# EAGLE library part 94 (library display-lcd-lxd)
16 Dot-Matrix Digit, .30" (7.62) Multiplexed Display Additional Descriptors: none
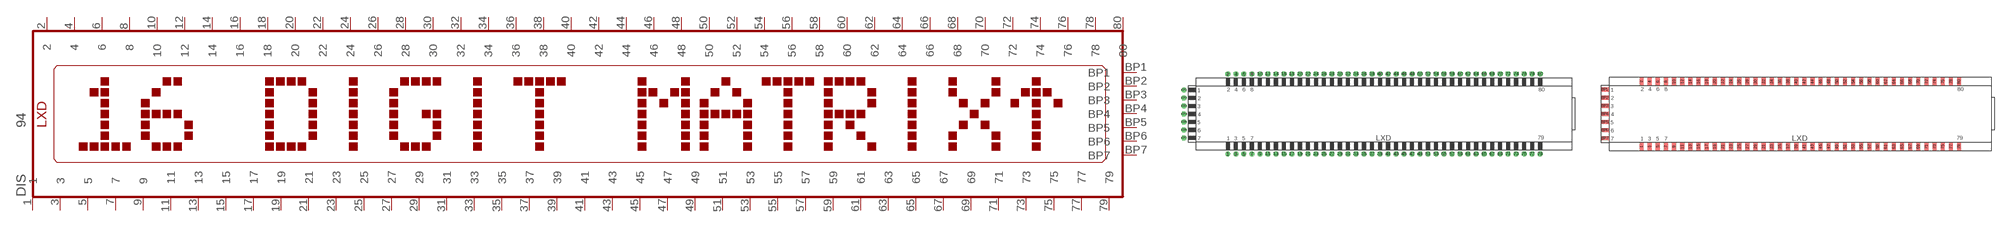
[diagram p38: symbol with the pads of 94-D; footprints 94-D, 94-E]

Designator prefix DIS

## 94DIP  [94-D]
1  1  pas
2  2  pas
3  3  pas
4  4  pas
5  5  pas
6  6  pas
7  7  pas
8  8  pas
9  9  pas
10  10  pas
11  11  pas
12  12  pas
13  13  pas
14  14  pas
15  15  pas
16  16  pas
17  17  pas
18  18  pas
19  19  pas
20  20  pas
21  21  pas
22  22  pas
23  23  pas
24  24  pas
25  25  pas
26  26  pas
27  27  pas
28  28  pas
29  29  pas
30  30  pas
31  31  pas
32  32  pas
33  33  pas
34  34  pas
35  35  pas
36  36  pas
37  37  pas
38  38  pas
39  39  pas
40  40  pas
41  41  pas
42  42  pas
43  43  pas
44  44  pas
45  45  pas
46  46  pas
47  47  pas
48  48  pas
49  49  pas
50  50  pas
51  51  pas
52  52  pas
53  53  pas
54  54  pas
55  55  pas
56  56  pas
57  57  pas
58  58  pas
59  59  pas
60  60  pas
61  61  pas
62  62  pas
63  63  pas
64  64  pas
65  65  pas
66  66  pas
67  67  pas
68  68  pas
69  69  pas
70  70  pas
71  71  pas
72  72  pas
73  73  pas
74  74  pas
75  75  pas
76  76  pas
77  77  pas
78  78  pas
79  79  pas
80  80  pas
BP1  BP1  pas
BP2  BP2  pas
BP3  BP3  pas
BP4  BP4  pas
BP5  BP5  pas
BP6  BP6  pas
BP7  BP7  pas

## 94SMD  [94-E]
Pads as for 94-D

## Footprint 94-D (pad centres in mm)
Glass Size: 4.80" x 0.90" &nbsp &nbsp &nbsp &nbsp &nbsp &nbsp &nbsp &nbsp &nbsp (121.92 x 22.86)
drill 0.813 pad 1.6 round: 1 -49.53,-12.7; BP1 -63.5,7.62
drill 0.813 pad 1.6 octagon: 2 -49.53,12.7; 3 -46.99,-12.7; 4 -46.99,12.7; 5 -44.45,-12.7; 6 -44.45,12.7; 7 -41.91,-12.7; 8 -41.91,12.7; 9 -39.37,-12.7; 10 -39.37,12.7; 11 -36.83,-12.7; 12 -36.83,12.7; 13 -34.29,-12.7; 14 -34.29,12.7; 15 -31.75,-12.7; 16 -31.75,12.7; 17 -29.21,-12.7; 18 -29.21,12.7; 19 -26.67,-12.7; 20 -26.67,12.7; 21 -24.13,-12.7; 22 -24.13,12.7; 23 -21.59,-12.7; 24 -21.59,12.7; 25 -19.05,-12.7; 26 -19.05,12.7; 27 -16.51,-12.7; 28 -16.51,12.7; 29 -13.97,-12.7; 30 -13.97,12.7; 31 -11.43,-12.7; 32 -11.43,12.7; 33 -8.89,-12.7; 34 -8.89,12.7; 35 -6.35,-12.7; 36 -6.35,12.7; 37 -3.81,-12.7; 38 -3.81,12.7; 39 -1.27,-12.7; 40 -1.27,12.7; 41 1.27,-12.7; 42 1.27,12.7; 43 3.81,-12.7; 44 3.81,12.7; 45 6.35,-12.7; 46 6.35,12.7; 47 8.89,-12.7; 48 8.89,12.7; 49 11.43,-12.7; 50 11.43,12.7; 51 13.97,-12.7; 52 13.97,12.7; 53 16.51,-12.7; 54 16.51,12.7; 55 19.05,-12.7; 56 19.05,12.7; 57 21.59,-12.7; 58 21.59,12.7; 59 24.13,-12.7; 60 24.13,12.7; 61 26.67,-12.7; 62 26.67,12.7; 63 29.21,-12.7; 64 29.21,12.7; 65 31.75,-12.7; 66 31.75,12.7; 67 34.29,-12.7; 68 34.29,12.7; 69 36.83,-12.7; 70 36.83,12.7; 71 39.37,-12.7; 72 39.37,12.7; 73 41.91,-12.7; 74 41.91,12.7; 75 44.45,-12.7; 76 44.45,12.7; 77 46.99,-12.7; 78 46.99,12.7; 79 49.53,-12.7; 80 49.53,12.7; BP2 -63.5,5.08; BP3 -63.5,2.54; BP4 -63.5,0; BP5 -63.5,-2.54; BP6 -63.5,-5.08; BP7 -63.5,-7.62

## Footprint 94-E (pad centres in mm)
Glass Size: 4.80" x 0.90" &nbsp &nbsp &nbsp &nbsp &nbsp &nbsp &nbsp &nbsp &nbsp (121.92 x 22.86)
smd 1.27 x 2.54: 1 -49.53,-10.16; 2 -49.53,10.16; 3 -46.99,-10.16; 4 -46.99,10.16; 5 -44.45,-10.16; 6 -44.45,10.16; 7 -41.91,-10.16; 8 -41.91,10.16; 9 -39.37,-10.16; 10 -39.37,10.16; 11 -36.83,-10.16; 12 -36.83,10.16; 13 -34.29,-10.16; 14 -34.29,10.16; 15 -31.75,-10.16; 16 -31.75,10.16; 17 -29.21,-10.16; 18 -29.21,10.16; 19 -26.67,-10.16; 20 -26.67,10.16; 21 -24.13,-10.16; 22 -24.13,10.16; 23 -21.59,-10.16; 24 -21.59,10.16; 25 -19.05,-10.16; 26 -19.05,10.16; 27 -16.51,-10.16; 28 -16.51,10.16; 29 -13.97,-10.16; 30 -13.97,10.16; 31 -11.43,-10.16; 32 -11.43,10.16; 33 -8.89,-10.16; 34 -8.89,10.16; 35 -6.35,-10.16; 36 -6.35,10.16; 37 -3.81,-10.16; 38 -3.81,10.16; 39 -1.27,-10.16; 40 -1.27,10.16; 41 1.27,-10.16; 42 1.27,10.16; 43 3.81,-10.16; 44 3.81,10.16; 45 6.35,-10.16; 46 6.35,10.16; 47 8.89,-10.16; 48 8.89,10.16; 49 11.43,-10.16; 50 11.43,10.16; 51 13.97,-10.16; 52 13.97,10.16; 53 16.51,-10.16; 54 16.51,10.16; 55 19.05,-10.16; 56 19.05,10.16; 57 21.59,-10.16; 58 21.59,10.16; 59 24.13,-10.16; 60 24.13,10.16; 61 26.67,-10.16; 62 26.67,10.16; 63 29.21,-10.16; 64 29.21,10.16; 65 31.75,-10.16; 66 31.75,10.16; 67 34.29,-10.16; 68 34.29,10.16; 69 36.83,-10.16; 70 36.83,10.16; 71 39.37,-10.16; 72 39.37,10.16; 73 41.91,-10.16; 74 41.91,10.16; 75 44.45,-10.16; 76 44.45,10.16; 77 46.99,-10.16; 78 46.99,10.16; 79 49.53,-10.16; 80 49.53,10.16
smd 2.54 x 1.27: BP1 -60.96,7.62; BP2 -60.96,5.08; BP3 -60.96,2.54; BP4 -60.96,0; BP5 -60.96,-2.54; BP6 -60.96,-5.08; BP7 -60.96,-7.62